# Altium schematic symbol library Dual_NPN_156.SchLib: 1 symbol
Pins are listed as number, name and electrical type; pins without a type are passive.

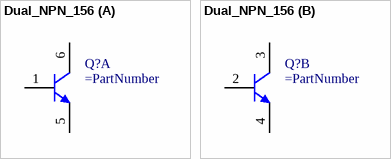
[diagram p0: symbol Dual_NPN_156]

## Dual_NPN_156
designator Q?
part A pins: 1 B, 5 E, 6 C
part B pins: 2 B, 3 C, 4 E